# Altium schematic symbol library BMS.SchLib: 68 symbols (part 4 of 4)
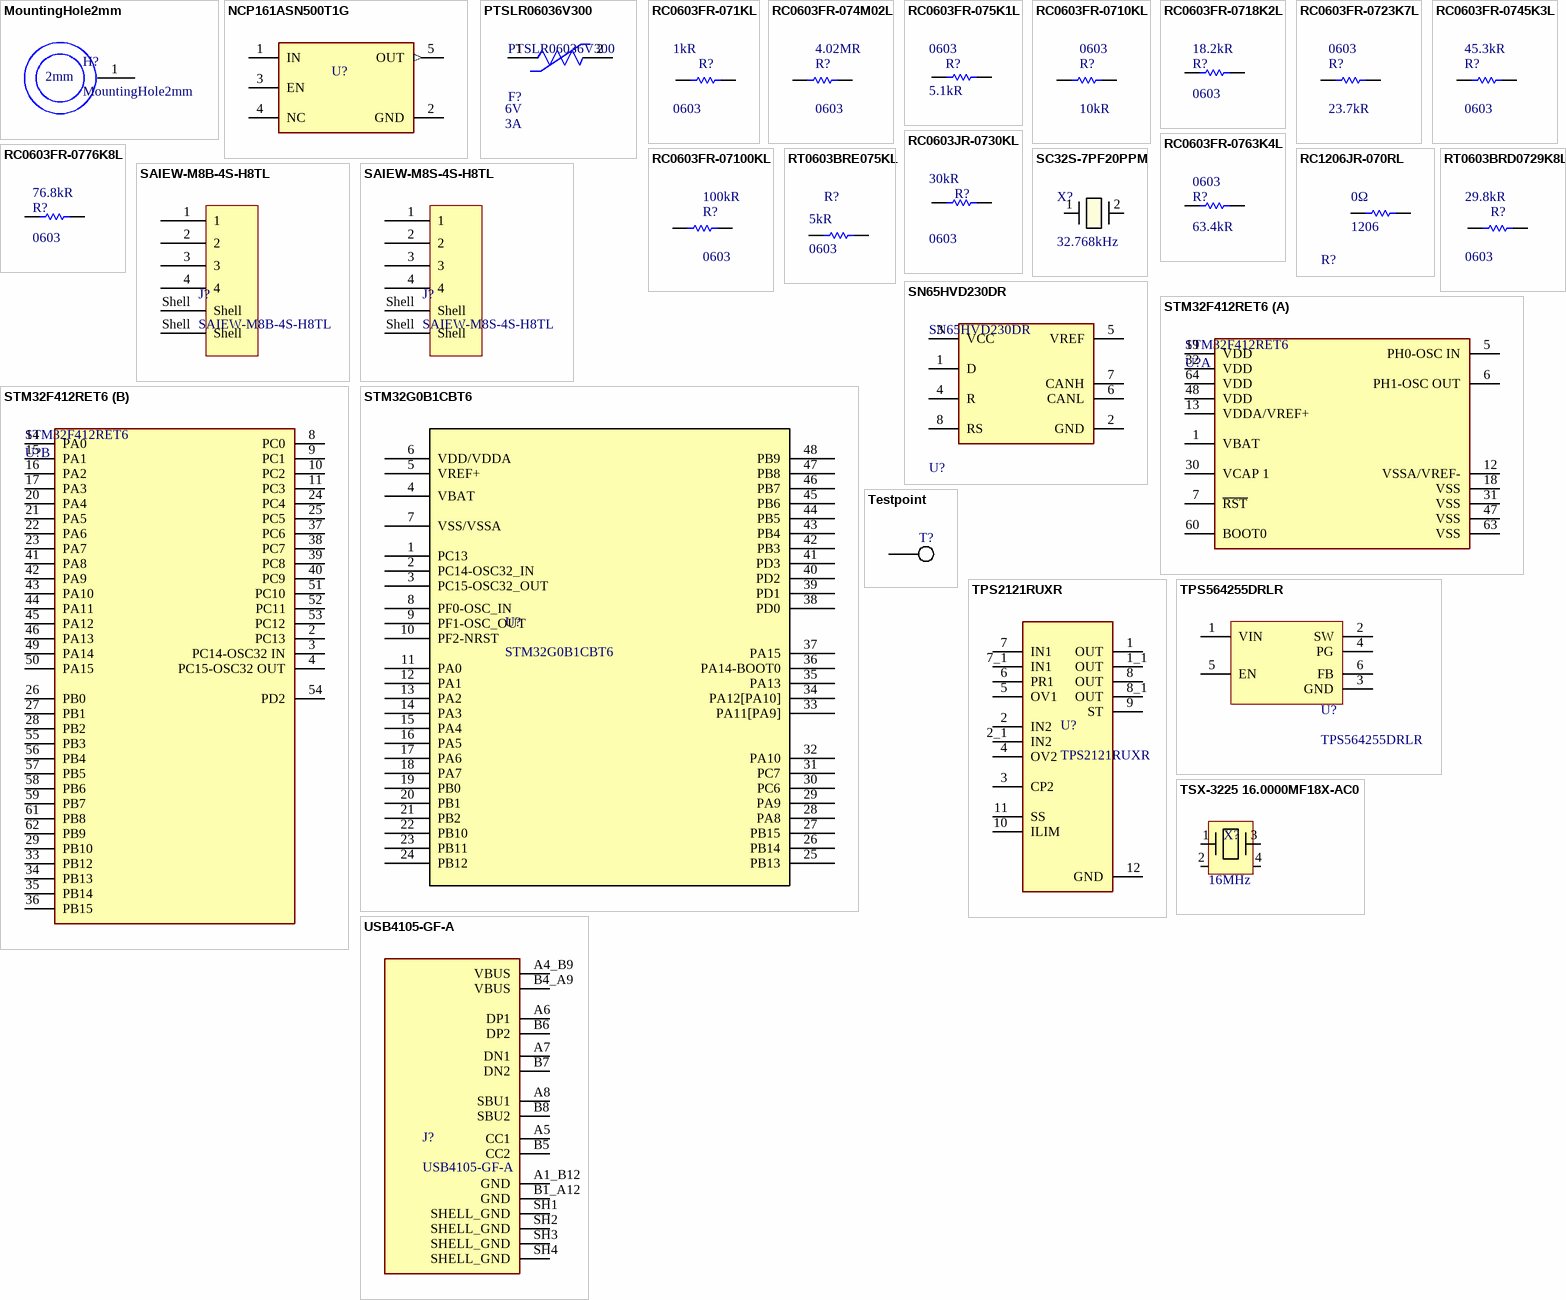
[diagram p4: symbols MountingHole2mm to USB4105-GF-A]

## STM32G0B1CBT6
designator U?
IC MCU 32BIT 128KB FLASH 48LQFP; Manufacturer: STMicroelectronics; Supplier: Mouser; Supplier Part Number: 511-STM32G0B1CBT6; Manufacturer Part Number: STM32G0B1CBT6; RoHS: Yes; Category: Microcontrollers; Stock: 1193; Pricing: 1=4.25, 10=2.96, 50=2.96, 100=2.67, 1000=2.44, 10000=2.31 (USD)
footprint LQFP48_STM32G0B1CBT_STM
pins: 1 PC13, 2 PC14-OSC32_IN, 3 PC15-OSC32_OUT, 4 VBAT, 5 VREF+, 6 VDD/VDDA, 7 VSS/VSSA, 8 PF0-OSC_IN, 9 PF1-OSC_OUT, 10 PF2-NRST, 11 PA0, 12 PA1, 13 PA2, 14 PA3, 15 PA4, 16 PA5, 17 PA6, 18 PA7, 19 PB0, 20 PB1, 21 PB2, 22 PB10, 23 PB11, 24 PB12, 25 PB13, 26 PB14, 27 PB15, 28 PA8, 29 PA9, 30 PC6, 31 PC7, 32 PA10, 33 PA11[PA9], 34 PA12[PA10], 35 PA13, 36 PA14-BOOT0, 37 PA15, 38 PD0, 39 PD1, 40 PD2, 41 PD3, 42 PB3, 43 PB4, 44 PB5, 45 PB6, 46 PB7, 47 PB8, 48 PB9

## Testpoint
designator T?  (value not drawn)
footprint Testpoint
footprint Testpoint - SMD
pins: 1

## TPS2121RUXR
designator U?
PWR MGMT BATTERY MGMT; MF: Texas Instruments; Throw Configuration: POWER SUPPLY SUPPORT CIRCUIT; Package: VQFN-HR-12 Texas Instruments; Price: None; Check_prices: https://www.snapeda.com/parts/TPS2121RUXR/Texas+Instruments/view-part/?ref=eda; Value: *; SnapEDA_Link: https://www.snapeda.com/parts/TPS2121RUXR/Texas+Instruments/view-part/?ref=snap; MP: TPS2121RUXR; Availability: In Stock; Purchase-URL: https://pricing.snapeda.com/search?q=TPS2121RUXR&ref=eda; Supplier: Mouser; Supplier Part Number: 595-TPS2121RUXR; Manufacturer: Texas Instruments; Manufacturer Part Number: TPS2121RUXR; RoHS: Yes; Category: Power Management ICs; Reach SVHC Compliant: Yes; RoHS Compliant: Yes; ComponentLink1URL: https://www.ti.com:443/lit/ds/symlink/tps2120.pdf?src-supplier=IHS+Markit; ComponentLink1Description: https://www.ti.com:443/lit/ds/symlink/tps2120.pdf?src-supplier=IHS+Markit; ComponentLink2URL: http://www.ti.com/general/docs/suppproductinfo.tsp?distId=10&amp;gotoUrl=http%3A%2F%2Fwww.ti.com%2Flit%2Fgpn%2Ftps2120&src-supplier=Digikey; ComponentLink2Description: http://www.ti.com/general/docs/suppproductinfo.tsp?distId=10&amp;gotoUrl=http%3A%2F%2Fwww.ti.com%2Flit%2Fgpn%2Ftps2120&src-supplier=Digikey
footprint IC_TPS2121RUXR
pins: 1 OUT, 1_1 OUT, 2 IN2, 2_1 IN2, 3 CP2, 4 OV2, 5 OV1, 6 PR1, 7 IN1, 7_1 IN1, 8 OUT, 8_1 OUT, 9 ST, 10 ILIM, 11 SS, 12 GND

## TPS564255DRLR
designator U?
IC REG BUCK ADJ 4A SOT563; Manufacturer: Texas Instruments; Supplier: Mouser; Supplier Part Number: 595-TPS564255DRLR; Manufacturer Part Number: TPS564255DRLR; RoHS: No; Category: Voltage Regulators - Switching; Stock: 2833; Pricing: 1=0.46, 10=0.29, 50=0.29, 100=0.234, 1000=0.214, 10000=0.188 (USD)
footprint TPS564242DRLR_TEX-M
pins: 1 VIN (power), 2 SW (power), 3 GND (power), 4 PG, 5 EN, 6 FB

## TSX-3225 16.0000MF18X-AC0
designator X?  value 16MHz  (hidden comment: TSX-3225 16.0000MF18X-AC0)
CRYSTAL 16.0000MHZ 9PF SMD; Manufacturer: Epson; Additional Feature: TAPE AND REEL; Aging: 1 PPM/FIRST YEAR; Crystal/Resonator Type: PARALLEL - FUNDAMENTAL; Drive Level: 1uW; Frequency Stability: 0.0018%; Frequency Tolerance: 10ppm; Operating Frequency-Nom: 160; ESR: 60R; Supplier: Digikey; Supplier Part Number: SER4070CT-ND; Manufacturer Part Number: TSX-3225 16.0000MF18X-AC0; RoHS: Yes; Category: Crystals; Stock: 29085; Pricing: 1=0.39, 10=0.342, 50=0.3104, 100=0.2976, 500=0.26974 (USD); Mounting Technology: Surface Mount; Terminal Finish: Nickel; Min Operating Temperature: -40°C; Max Operating Temperature: 85°C; JESD-609 Code: e4; Load Capacitance: 9pF; Reach SVHC Compliant: Yes; RoHS Compliant: Yes; ComponentLink1URL: https://datasheet.ciiva.com:443/pdfs/VipMasterIC/IC/SEIK/SEIKS02827/SEIKS02827-1.pdf?src-supplier=IHS+Markit; ComponentLink1Description: https://datasheet.ciiva.com:443/pdfs/VipMasterIC/IC/SEIK/SEIKS02827/SEIKS02827-1.pdf?src-supplier=IHS+Markit; ComponentLink2URL: https://www.eea.epson.com/wp-content/uploads/2016/11/November-2016-PCS-MASTER-BOOK.pdf?src-supplier=Verical; ComponentLink2Description: https://www.eea.epson.com/wp-content/uploads/2016/11/November-2016-PCS-MASTER-BOOK.pdf?src-supplier=Verical; ComponentLink3URL: https://www5.epsondevice.com/en/information/support/pdf/june_2018_psc_masterbook.pdf?src-supplier=Digikey; ComponentLink3Description: https://www5.epsondevice.com/en/information/support/pdf/june_2018_psc_masterbook.pdf?src-supplier=Digikey; ComponentLink4URL: https://datasheet.octopart.com/TSX-3225-16.0000MF18X-AC0-Epson-datasheet-61114919.pdf?src-supplier=Future+Electronics; ComponentLink4Description: https://datasheet.octopart.com/TSX-3225-16.0000MF18X-AC0-Epson-datasheet-61114919.pdf?src-supplier=Future+Electronics; ComponentLink5URL: https://www.eea.epson.com/wp-content/uploads/2016/11/November-2016-PCS-MASTER-BOOK.pdf?src-supplier=Mouser; ComponentLink5Description: https://www.eea.epson.com/wp-content/uploads/2016/11/November-2016-PCS-MASTER-BOOK.pdf?src-supplier=Mouser; ComponentLink6URL: https://datasheet.octopart.com/TSX-3225-16.0000MF18X-AC0-Epson-datasheet-140567378.pdf?src-supplier=Arrow.cn; ComponentLink6Description: https://datasheet.octopart.com/TSX-3225-16.0000MF18X-AC0-Epson-datasheet-140567378.pdf?src-supplier=Arrow.cn
footprint FP-TSX-3225-MFG
pins: 1, 2, 3, 4

## USB4105-GF-A
designator J?
CONN RCP USB2.0 TYP C 24P SMD RA; Manufacturer: Global Connector Technology; Supplier: Newark; Supplier Part Number: 71AJ9393; Manufacturer Part Number: USB4105-GF-A; RoHS: No; Category: USB Connectors; ComponentLink1URL: https://gct.co/files/drawings/usb4105.pdf?src-supplier=Digikey; ComponentLink1Description: https://gct.co/files/drawings/usb4105.pdf?src-supplier=Digikey
footprint GCT_USB4105-GF-A
pins: A1_B12 GND, A4_B9 VBUS, A5 CC1, A6 DP1, A7 DN1, A8 SBU1, B1_A12 GND, B4_A9 VBUS, B5 CC2, B6 DP2, B7 DN2, B8 SBU2, SH1 SHELL_GND, SH2 SHELL_GND, SH3 SHELL_GND, SH4 SHELL_GND